# Altium footprint library Header Connector.PcbLib: 36 footprints (part 3 of 3)
Each footprint in its own frame and in the unit in brackets; x right, y up, seen from the top. Pads: shape width x height; smd on the part's side, far side on the other; paste and mask are expansions set on the pad; w line width, h text height; cw(c..) or ccw(c..) is an arc to the next point about the centre after c.
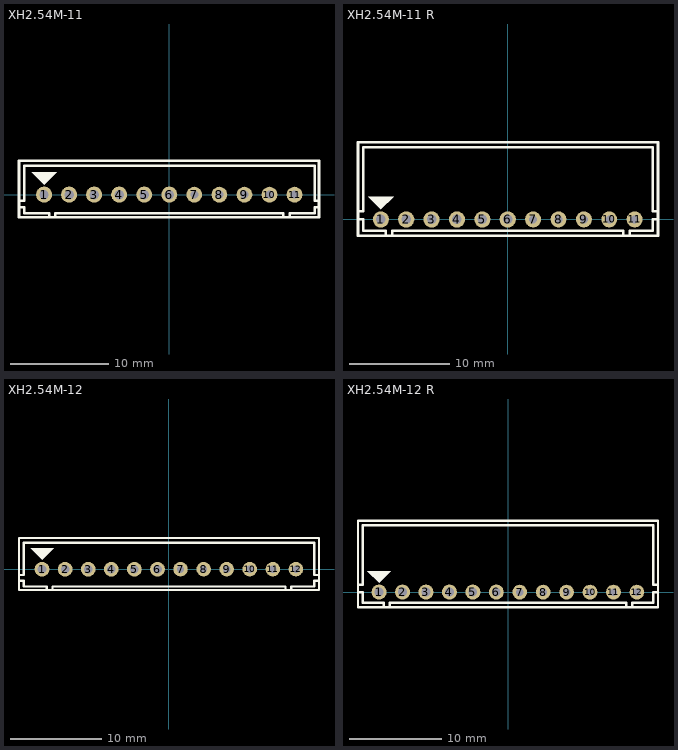
[diagram p2: the footprints below, top view; thin cyan lines are the x and y axes]

## XH2.54M-11 [mm]
pads (11):
  round 1.626 hole 0.95: 1(-12.7,0) 2(-10.16,0) 3(-7.62,0) 4(-5.08,0) 5(-2.54,0) 6(0,0)
  round 1.6 hole 0.8: 7(2.54,0) 8(5.08,0) 9(7.62,0) 10(10.16,0) 11(12.7,0)
Top Overlay:
  region: -13.97,2.286 -11.43,2.286 -12.7,1.016
  lines w0.254: -15.238,-1.27 -14.73,-1.27 -14.73,-1.905 -12.19,-1.905 -12.19,-2.286 ; -15.238,-0.635 -14.73,-0.635 -14.73,2.921 14.732,2.921 14.732,-0.635 15.113,-0.635 ; -11.557,-2.286 -11.557,-1.905 11.557,-1.905 11.557,-2.286 ; 12.192,-2.286 12.192,-1.905 14.732,-1.905 14.732,-1.27 15.113,-1.27 ; -15.238,-2.286 15.18,-2.286 15.18,3.429 -15.238,3.429 -15.238,-2.286
3D body "XH2.54M-11.STEP": height 7.03, standoff -1.7, extent -15.176,-2.26 15.184,3.48

## XH2.54M-11 R [mm]
pads (11):
  round 1.626 hole 0.95: 1(-12.7,0) 2(-10.16,0) 3(-7.62,0) 4(-5.08,0) 5(-2.54,0) 6(0,0)
  round 1.6 hole 0.8: 7(2.54,0) 8(5.08,0) 9(7.62,0) 10(10.16,0) 11(12.7,0)
Top Overlay:
  region: -13.97,2.286 -11.43,2.286 -12.7,1.016
  lines w0.254: -14.986,0 -14.478,0 -14.478,-1.143 -12.19,-1.143 -12.19,-1.651 ; -14.986,0.813 -14.478,0.813 -14.478,7.239 14.525,7.239 14.525,0.8 15.033,0.8 ; -11.557,-1.651 -11.557,-1.143 11.557,-1.143 11.557,-1.651 ; 12.192,-1.651 12.192,-1.143 14.525,-1.143 14.525,0 15.033,0 ; -14.986,-1.651 -14.986,7.747 15.037,7.747 15.037,-1.651 -14.986,-1.651
3D body "JST - XH - Thru (R) - 11Pin - 2.54mm.stp": height 5.97, standoff -3.25, extent -15.037,-0.303 15.037,7.734

## XH2.54M-12 [mm]
pads (12):
  round 1.626 hole 0.95: 1(-13.97,0) 2(-11.43,0) 3(-8.89,0) 4(-6.35,0) 5(-3.81,0) 6(-1.27,0)
  round 1.6 hole 0.8: 7(1.27,0) 8(3.81,0) 9(6.35,0) 10(8.89,0) 11(11.43,0) 12(13.97,0)
Top Overlay:
  region: -15.24,2.286 -12.7,2.286 -13.97,1.016
  lines w0.254: -16.508,-1.27 -16,-1.27 -16,-1.905 -13.46,-1.905 -13.46,-2.286 ; -16.508,-0.635 -16,-0.635 -16,2.921 16.002,2.921 16.002,-0.635 16.383,-0.635 ; -12.827,-2.286 -12.827,-1.905 12.827,-1.905 12.827,-2.286 ; 13.462,-2.286 13.462,-1.905 16.002,-1.905 16.002,-1.27 16.51,-1.27 ; -16.508,-2.286 -16.508,3.429 16.51,3.429 16.51,-2.286 -16.508,-2.286
3D body "XH2.54M-12.STEP": height 7.03, standoff -1.7, extent -16.446,-2.26 16.454,3.48

## XH2.54M-12 R [mm]
pads (12):
  round 1.626 hole 0.95: 1(-13.97,0) 2(-11.43,0) 3(-8.89,0) 4(-6.35,0) 5(-3.81,0) 6(-1.27,0)
  round 1.6 hole 0.8: 7(1.27,0) 8(3.81,0) 9(6.35,0) 10(8.89,0) 11(11.43,0) 12(13.97,0)
Top Overlay:
  region: -15.24,2.286 -12.7,2.286 -13.97,1.016
  lines w0.254: -16.256,0 -15.748,0 -15.748,-1.143 -13.46,-1.143 -13.46,-1.651 ; -16.256,0.813 -15.748,0.813 -15.748,7.239 15.748,7.239 15.748,0.8 16.256,0.8 ; -12.827,-1.651 -12.827,-1.143 12.827,-1.143 12.827,-1.651 ; 13.462,-1.651 13.462,-1.143 15.748,-1.143 15.748,0 16.256,0 ; -16.256,-1.651 -16.256,7.747 16.256,7.747 16.256,-1.651 -16.256,-1.651
3D body "JST - XH - Thru (R) - 12Pin - 2.54mm.stp": height 5.97, standoff -3.25, extent -16.307,-0.303 16.307,7.734